# Altium schematic symbol library Cypress.SchLib: 4 symbols
Pins are listed as number, name and electrical type; pins without a type are passive.

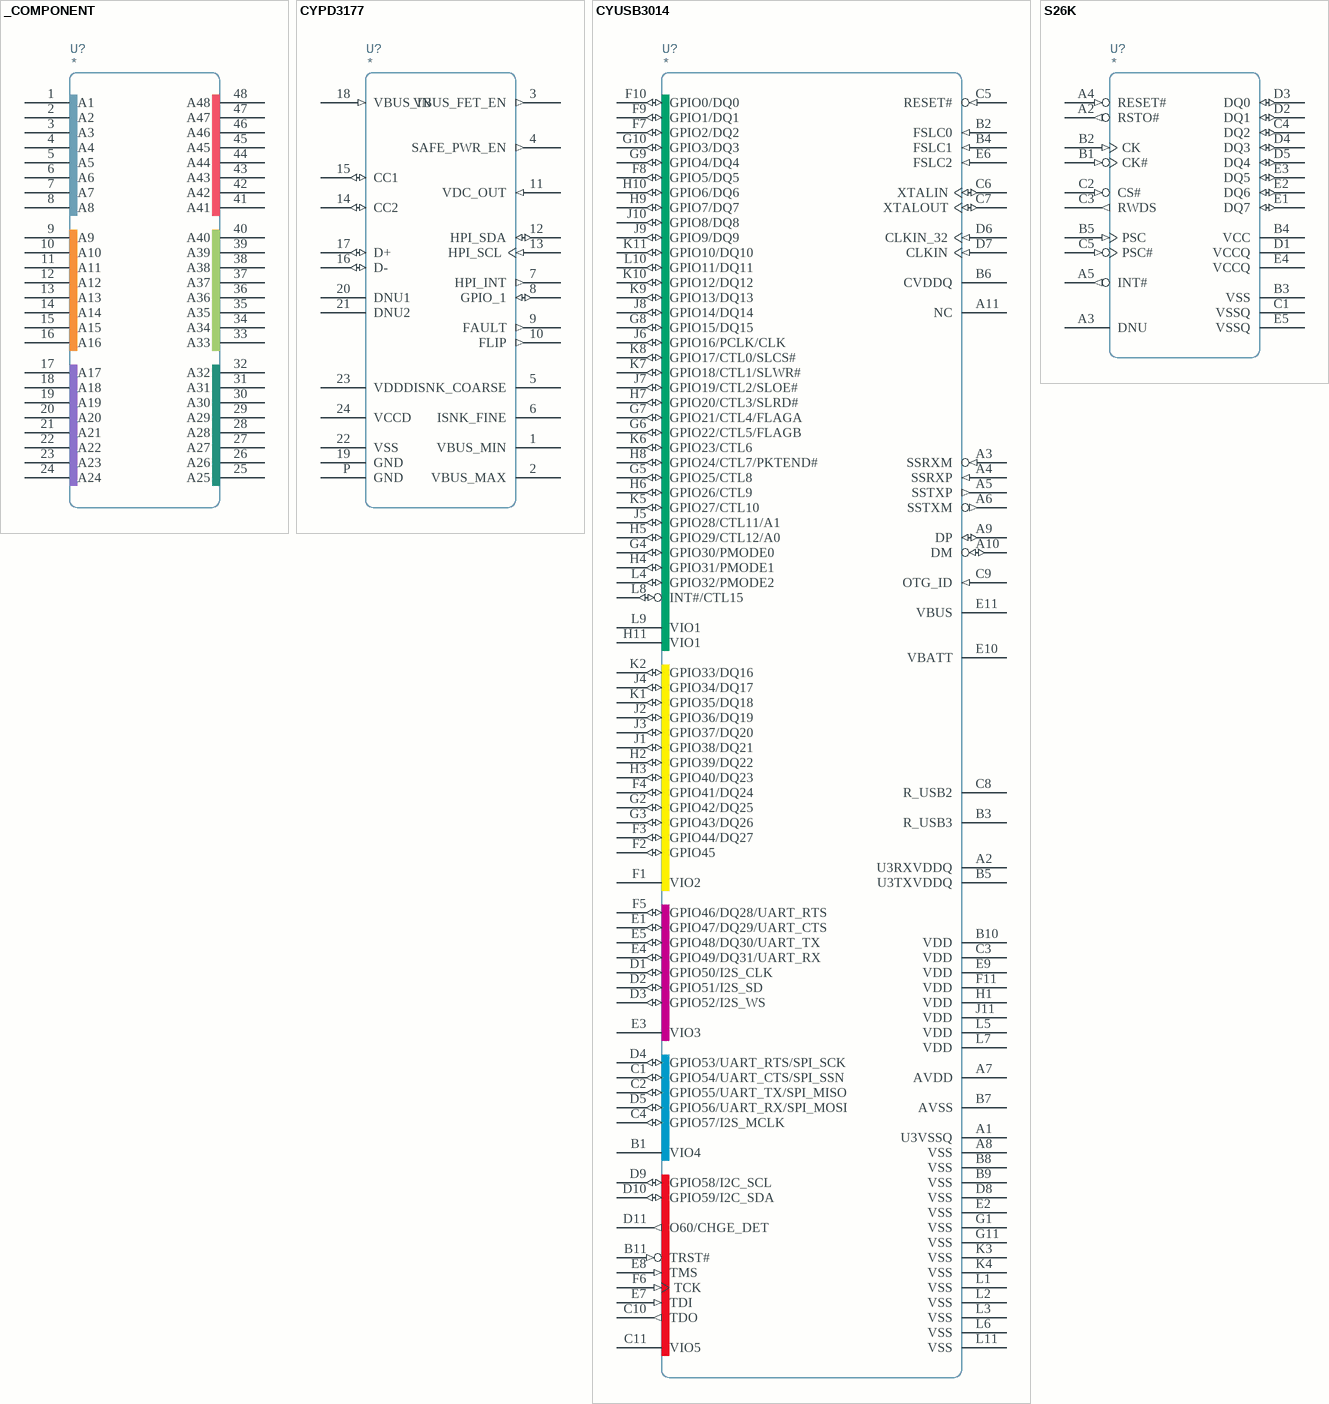
[diagram p0: symbols _COMPONENT to S26K]

## _COMPONENT
designator U?
pins: 1 A1, 2 A2, 3 A3, 4 A4, 5 A5, 6 A6, 7 A7, 8 A8, 9 A9, 10 A10, 11 A11, 12 A12, 13 A13, 14 A14, 15 A15, 16 A16, 17 A17, 18 A18, 19 A19, 20 A20, 21 A21, 22 A22, 23 A23, 24 A24, 25 A25, 26 A26, 27 A27, 28 A28, 29 A29, 30 A30, 31 A31, 32 A32, 33 A33, 34 A34, 35 A35, 36 A36, 37 A37, 38 A38, 39 A39, 40 A40, 41 A41, 42 A42, 43 A43, 44 A44, 45 A45, 46 A46, 47 A47, 48 A48

## CYPD3177
designator U?
pins: 1 VBUS_MIN, 2 VBUS_MAX, 3 VBUS_FET_EN (out), 4 SAFE_PWR_EN (out), 5 ISNK_COARSE, 6 ISNK_FINE, 7 HPI_INT (out), 8 GPIO_1 (io), 9 FAULT (out), 10 FLIP (out), 11 VDC_OUT (in), 12 HPI_SDA (io), 13 HPI_SCL (in), 14 CC2 (io), 15 CC1 (io), 16 D- (io), 17 D+ (io), 18 VBUS_IN (in), 19 GND, 20 DNU1, 21 DNU2, 22 VSS, 23 VDDD, 24 VCCD, P GND

## CYUSB3014
designator U?
pins: A1 U3VSSQ, A2 U3RXVDDQ, A3 SSRXM (in), A4 SSRXP (in), A5 SSTXP (out), A6 SSTXM (out), A7 AVDD, A8 VSS, A9 DP (io), A10 DM (io), A11 NC, B1 VIO4, B2 FSLC0 (in), B3 R_USB3, B4 FSLC1 (in), B5 U3TXVDDQ, B6 CVDDQ, B7 AVSS, B8 VSS, B9 VSS, B10 VDD, B11 TRST# (in), C1 GPIO54/UART_CTS/SPI_SSN (io), C2 GPIO55/UART_TX/SPI_MISO (io), C3 VDD, C4 GPIO57/I2S_MCLK (io), C5 RESET# (in), C6 XTALIN (io), C7 XTALOUT (io), C8 R_USB2, C9 OTG_ID (in), C10 TDO (out), C11 VIO5, D1 GPIO50/I2S_CLK (io), D2 GPIO51/I2S_SD (io), D3 GPIO52/I2S_WS (io), D4 GPIO53/UART_RTS/SPI_SCK (io), D5 GPIO56/UART_RX/SPI_MOSI (io), D6 CLKIN_32 (in), D7 CLKIN (in), D8 VSS, D9 GPIO58/I2C_SCL (io), D10 GPIO59/I2C_SDA (io), D11 O60/CHGE_DET (out), E1 GPIO47/DQ29/UART_CTS (io), E2 VSS, E3 VIO3, E4 GPIO49/DQ31/UART_RX (io), E5 GPIO48/DQ30/UART_TX (io), E6 FSLC2 (in), E7 TDI (in), E8 TMS (in), E9 VDD, E10 VBATT, E11 VBUS, F1 VIO2, F2 GPIO45 (io), F3 GPIO44/DQ27 (io), F4 GPIO41/DQ24 (io), F5 GPIO46/DQ28/UART_RTS (io), F6 TCK (in), F7 GPIO2/DQ2 (io), F8 GPIO5/DQ5 (io), F9 GPIO1/DQ1 (io), F10 GPIO0/DQ0 (io), F11 VDD, G1 VSS, G2 GPIO42/DQ25 (io), G3 GPIO43/DQ26 (io), G4 GPIO30/PMODE0 (io), G5 GPIO25/CTL8 (io), G6 GPIO22/CTL5/FLAGB (io), G7 GPIO21/CTL4/FLAGA (io), G8 GPIO15/DQ15 (io), G9 GPIO4/DQ4 (io), G10 GPIO3/DQ3 (io), G11 VSS, H1 VDD, H2 GPIO39/DQ22 (io), H3 GPIO40/DQ23 (io), H4 GPIO31/PMODE1 (io), H5 GPIO29/CTL12/A0 (io), H6 GPIO26/CTL9 (io), H7 GPIO20/CTL3/SLRD# (io), H8 GPIO24/CTL7/PKTEND# (io), H9 GPIO7/DQ7 (io), H10 GPIO6/DQ6 (io), H11 VIO1, J1 GPIO38/DQ21 (io), J2 GPIO36/DQ19 (io), J3 GPIO37/DQ20 (io), J4 GPIO34/DQ17 (io), J5 GPIO28/CTL11/A1 (io), J6 GPIO16/PCLK/CLK (io), J7 GPIO19/CTL2/SLOE# (io), J8 GPIO14/DQ14 (io), J9 GPIO9/DQ9 (io), J10 GPIO8/DQ8 (io), J11 VDD, K1 GPIO35/DQ18 (io), K2 GPIO33/DQ16 (io), K3 VSS, K4 VSS, K5 GPIO27/CTL10 (io), K6 GPIO23/CTL6 (io), K7 GPIO18/CTL1/SLWR# (io), K8 GPIO17/CTL0/SLCS# (io), K9 GPIO13/DQ13 (io), K10 GPIO12/DQ12 (io), K11 GPIO10/DQ10 (io), L1 VSS, L2 VSS, L3 VSS, L4 GPIO32/PMODE2 (io), L5 VDD, L6 VSS, L7 VDD, L8 INT#/CTL15 (io), L9 VIO1, L10 GPIO11/DQ11 (io), L11 VSS

## S26K
designator U?
pins: A2 RSTO# (out), A3 DNU, A4 RESET# (in), A5 INT# (out), B1 CK# (in), B2 CK (in), B3 VSS, B4 VCC, B5 PSC (in), C1 VSSQ, C2 CS# (in), C3 RWDS (out), C4 DQ2 (io), C5 PSC# (in), D1 VCCQ, D2 DQ1 (io), D3 DQ0 (io), D4 DQ3 (io), D5 DQ4 (io), E1 DQ7 (io), E2 DQ6 (io), E3 DQ5 (io), E4 VCCQ, E5 VSSQ